# Altium footprint library THU VIEN 3.PcbLib: 22 footprints (part 1 of 2)
Each footprint in its own frame and in the unit in brackets; x right, y up, seen from the top. Pads: shape width x height; smd on the part's side, far side on the other; paste and mask are expansions set on the pad; w line width, h text height; cw(c..) or ccw(c..) is an arc to the next point about the centre after c.
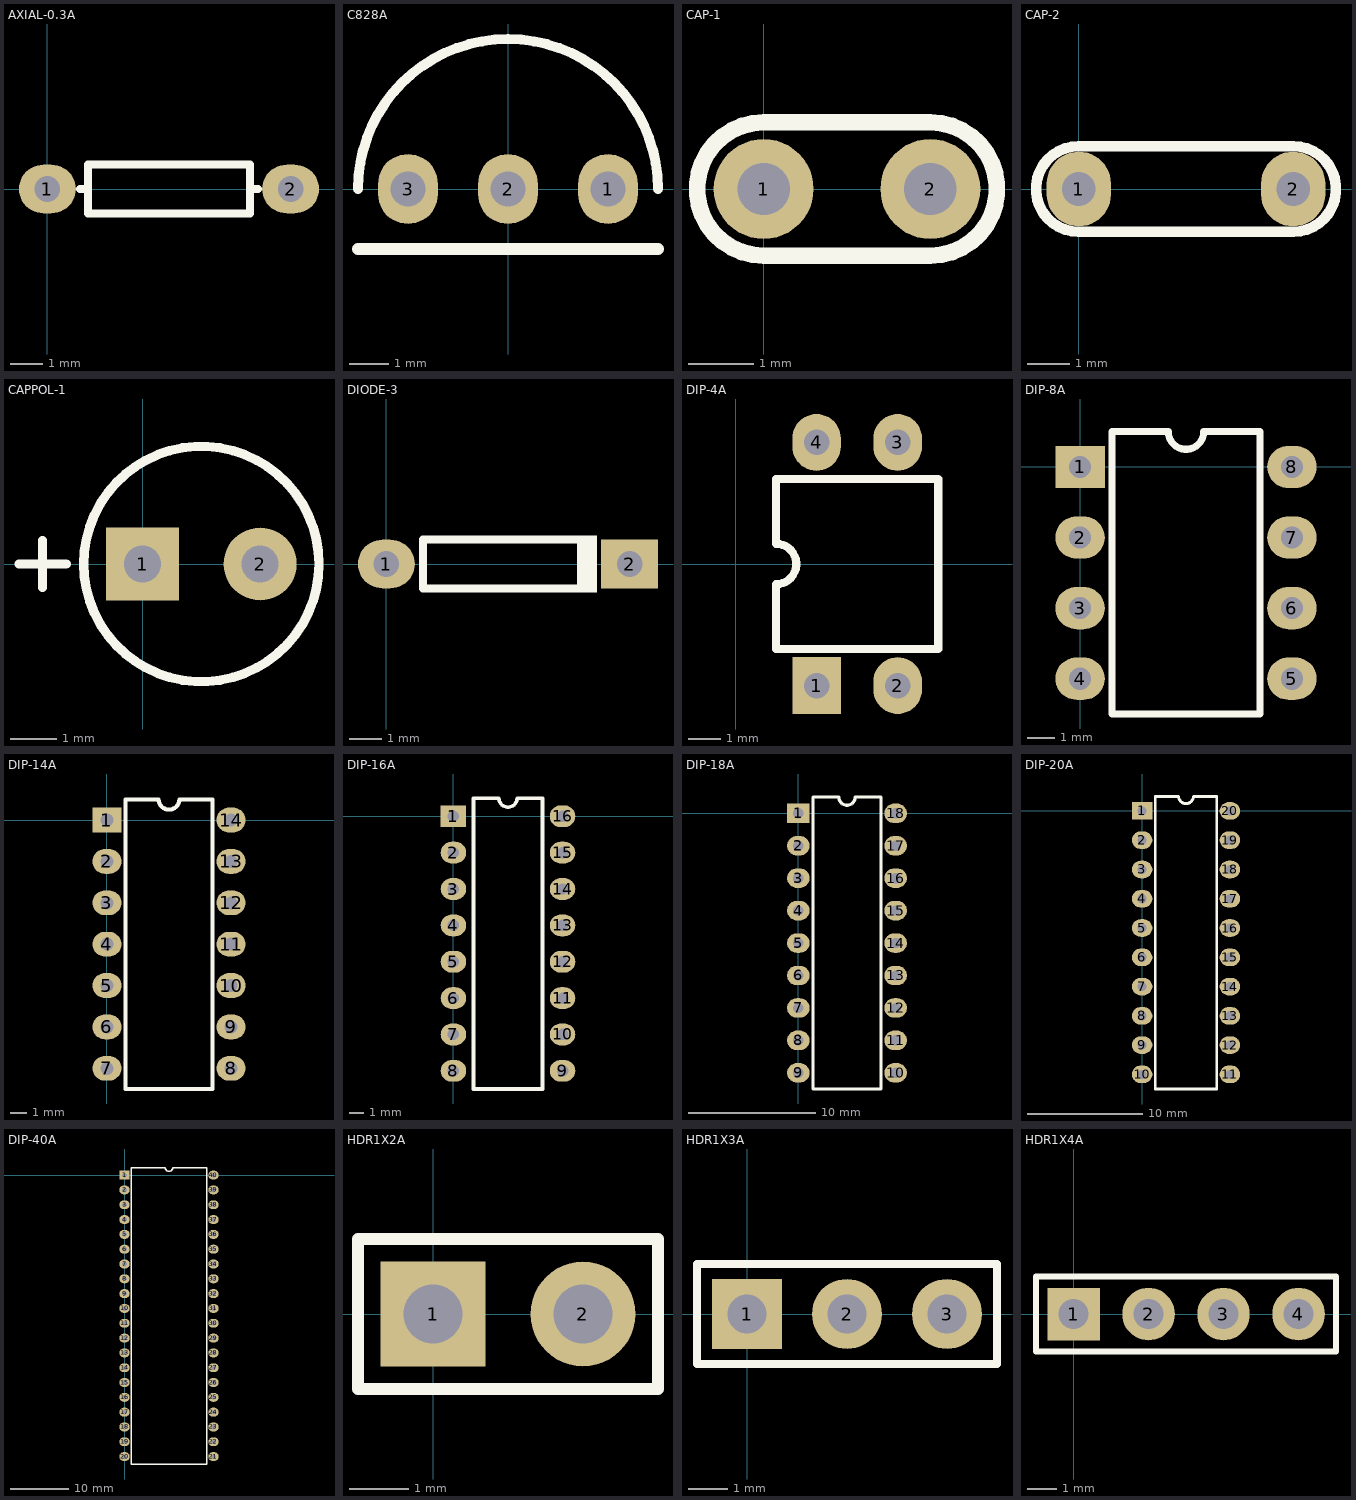
[diagram p0: the footprints below, top view; thin cyan lines are the x and y axes]

## AXIAL-0.3A [mil]
pads (2):
  oval 70x60 hole 31.5: 1(0,0) 2(300,0)
Top Overlay:
  lines w10: 40,0 50,0 ; 250,0 260,0 ; 50,-30 50,30 250,30 250,-30 50,-30

## C828A [mil]
pads (3):
  oval 60x70 hole 35.43: 1(100,0) 2(0,0) 3(-100,0)
Top Overlay:
  lines w10: -150,0 cw(c0,0) 150,0
  lines w12: -150,-60 150,-60
Internal Plane 1:
  lines w10: -150,0 cw(c0,0) 150,0
  lines w12: -140,-70 150,-70

## CAP-1 [mil]
pads (2):
  round 60 hole 31.5: 1(0,0) 2(100,0)
Top Overlay:
  lines w10: 0,-40 cw(c0,0) 0,40 100,40 cw(c100,0) 100,-40 0,-40

## CAP-2 [mil]
pads (2):
  oval 60x70 hole 31.5: 1(0,0) 2(200,0)
Top Overlay:
  lines w10: 0,-40 cw(c0,0) 0,40 200,40 cw(c200,0) 200,-40 0,-40

## CAPPOL-1 [mil]
pads (2):
  rect 62x62 hole 31.5: 1(0,0)
  round 62 hole 31.5: 2(100,0)
Top Overlay:
  circle w8: c50,0 r100
  lines w8: -105,0 -65,0 ; -85,-20 -85,20

## DIODE-3 [mil]
pads (2):
  oval 70x60 hole 31.5: 1(0,0)
  rect 70x60 hole 31.5: 2(300,0)
Top Overlay:
  rectangle: 235,-35 260,35
  lines w10: 250,-30 45,-30 45,30 250,30

## DIP-4A [mil]
pads (4):
  rect 60x70 hole 31.5: 1(100,-150)
  oval 60x70 hole 31.5: 2(200,-150) 3(200,150) 4(100,150)
Top Overlay:
  lines w10: 50,-105 250,-105 250,105 50,105 50,25 cw(c50,0) 50,-25 50,-105

## DIP-8A [mil]
pads (8):
  rect 70x60 hole 31.5: 1(0,0)
  oval 70x60 hole 31.5: 2(0,-100) 3(0,-200) 4(0,-300) 5(300,-300) 6(300,-200) 7(300,-100) 8(300,0)
Top Overlay:
  lines w10: 45,-350 255,-350 255,50 175,50 cw(c150,50) 125,50 45,50 45,-350

## DIP-14A [mil]
pads (14):
  rect 70x60 hole 31.5: 1(0,0)
  oval 70x60 hole 31.5: 2(0,-100) 3(0,-200) 4(0,-300) 5(0,-400) 6(0,-500) 7(0,-600) 8(300,-600) 9(300,-500) 10(300,-400) 11(300,-300) 12(300,-200) 13(300,-100) 14(300,0)
Top Overlay:
  lines w10: 45,-650 255,-650 255,50 175,50 cw(c150,50) 125,50 45,50 45,-650

## DIP-16A [mil]
pads (16):
  rect 70x60 hole 31.5: 1(0,0)
  oval 70x60 hole 31.5: 2(0,-100) 3(0,-200) 4(0,-300) 5(0,-400) 6(0,-500) 7(0,-600) 8(0,-700) 9(300,-700) 10(300,-600) 11(300,-500) 12(300,-400) 13(300,-300) 14(300,-200) 15(300,-100) 16(300,0)
Top Overlay:
  lines w10: 55,-750 245,-750 245,50 175,50 cw(c150,50) 125,50 55,50 55,-750

## DIP-18A [mil]
pads (18):
  rect 70x60 hole 31.5: 1(0,0)
  oval 70x60 hole 31.5: 2(0,-100) 3(0,-200) 4(0,-300) 5(0,-400) 6(0,-500) 7(0,-600) 8(0,-700) 9(0,-800) 10(300,-800) 11(300,-700) 12(300,-600) 13(300,-500) 14(300,-400) 15(300,-300) 16(300,-200) 17(300,-100) 18(300,0)
Top Overlay:
  lines w10: 45,-850 45,50 125,50 ccw(c150,50) 175,50 255,50 255,-850 45,-850

## DIP-20A [mil]
pads (20):
  rect 70x60 hole 31.5: 1(0,0)
  oval 70x60 hole 31.5: 2(0,-100) 3(0,-200) 4(0,-300) 5(0,-400) 6(0,-500) 7(0,-600) 8(0,-700) 9(0,-800) 10(0,-900) 11(300,-900) 12(300,-800) 13(300,-700) 14(300,-600) 15(300,-500) 16(300,-400) 17(300,-300) 18(300,-200) 19(300,-100) 20(300,0)
Top Overlay:
  lines w10: 45,-950 45,50 125,50 ccw(c150,50) 175,50 255,50 255,-950 45,-950

## DIP-40A [mil]
pads (40):
  rect 70x60 hole 31.5: 1(0,0)
  oval 70x60 hole 31.5: 2(0,-100) 3(0,-200) 4(0,-300) 5(0,-400) 6(0,-500) 7(0,-600) 8(0,-700) 9(0,-800) 10(0,-900) 11(0,-1000) 12(0,-1100) 13(0,-1200) 14(0,-1300) 15(0,-1400) 16(0,-1500) 17(0,-1600) 18(0,-1700) 19(0,-1800) 20(0,-1900) 21(600,-1900) 22(600,-1800) 23(600,-1700) 24(600,-1600) 25(600,-1500) 26(600,-1400) 27(600,-1300) 28(600,-1200) 29(600,-1100) 30(600,-1000) 31(600,-900) 32(600,-800) 33(600,-700) 34(600,-600) 35(600,-500) 36(600,-400) 37(600,-300) 38(600,-200) 39(600,-100) 40(600,0)
Top Overlay:
  lines w10: 45,-1950 45,50 275,50 ccw(c300,50) 325,50 555,50 555,-1950 45,-1950

## HDR1X2A [mil]
pads (2):
  rect 70x70 hole 39.37: 1(0,0)
  round 70 hole 39.37: 2(100,0)
Top Overlay:
  lines w8: -50,-50 150,-50 150,50 -50,50 -50,-50

## HDR1X3A [mil]
pads (3):
  rect 70x70 hole 39.37: 1(0,0)
  round 70 hole 39.37: 2(100,0) 3(200,0)
Top Overlay:
  lines w8: -50,-50 -50,50 250,50 250,-50 -50,-50

## HDR1X4A [mil]
pads (4):
  rect 70x70 hole 39.37: 1(0,0)
  round 70 hole 39.37: 2(100,0) 3(200,0) 4(300,0)
Top Overlay:
  lines w8: -50,-50 350,-50 350,50 -50,50 -50,-50